# Altium footprint library DXPpcb.PCBLIB: 575 footprints (part 21 of 36)
Each footprint in its own frame and in the unit in brackets; x right, y up, seen from the top. Pads: shape width x height; smd on the part's side, far side on the other; paste and mask are expansions set on the pad; w line width, h text height; cw(c..) or ccw(c..) is an arc to the next point about the centre after c.
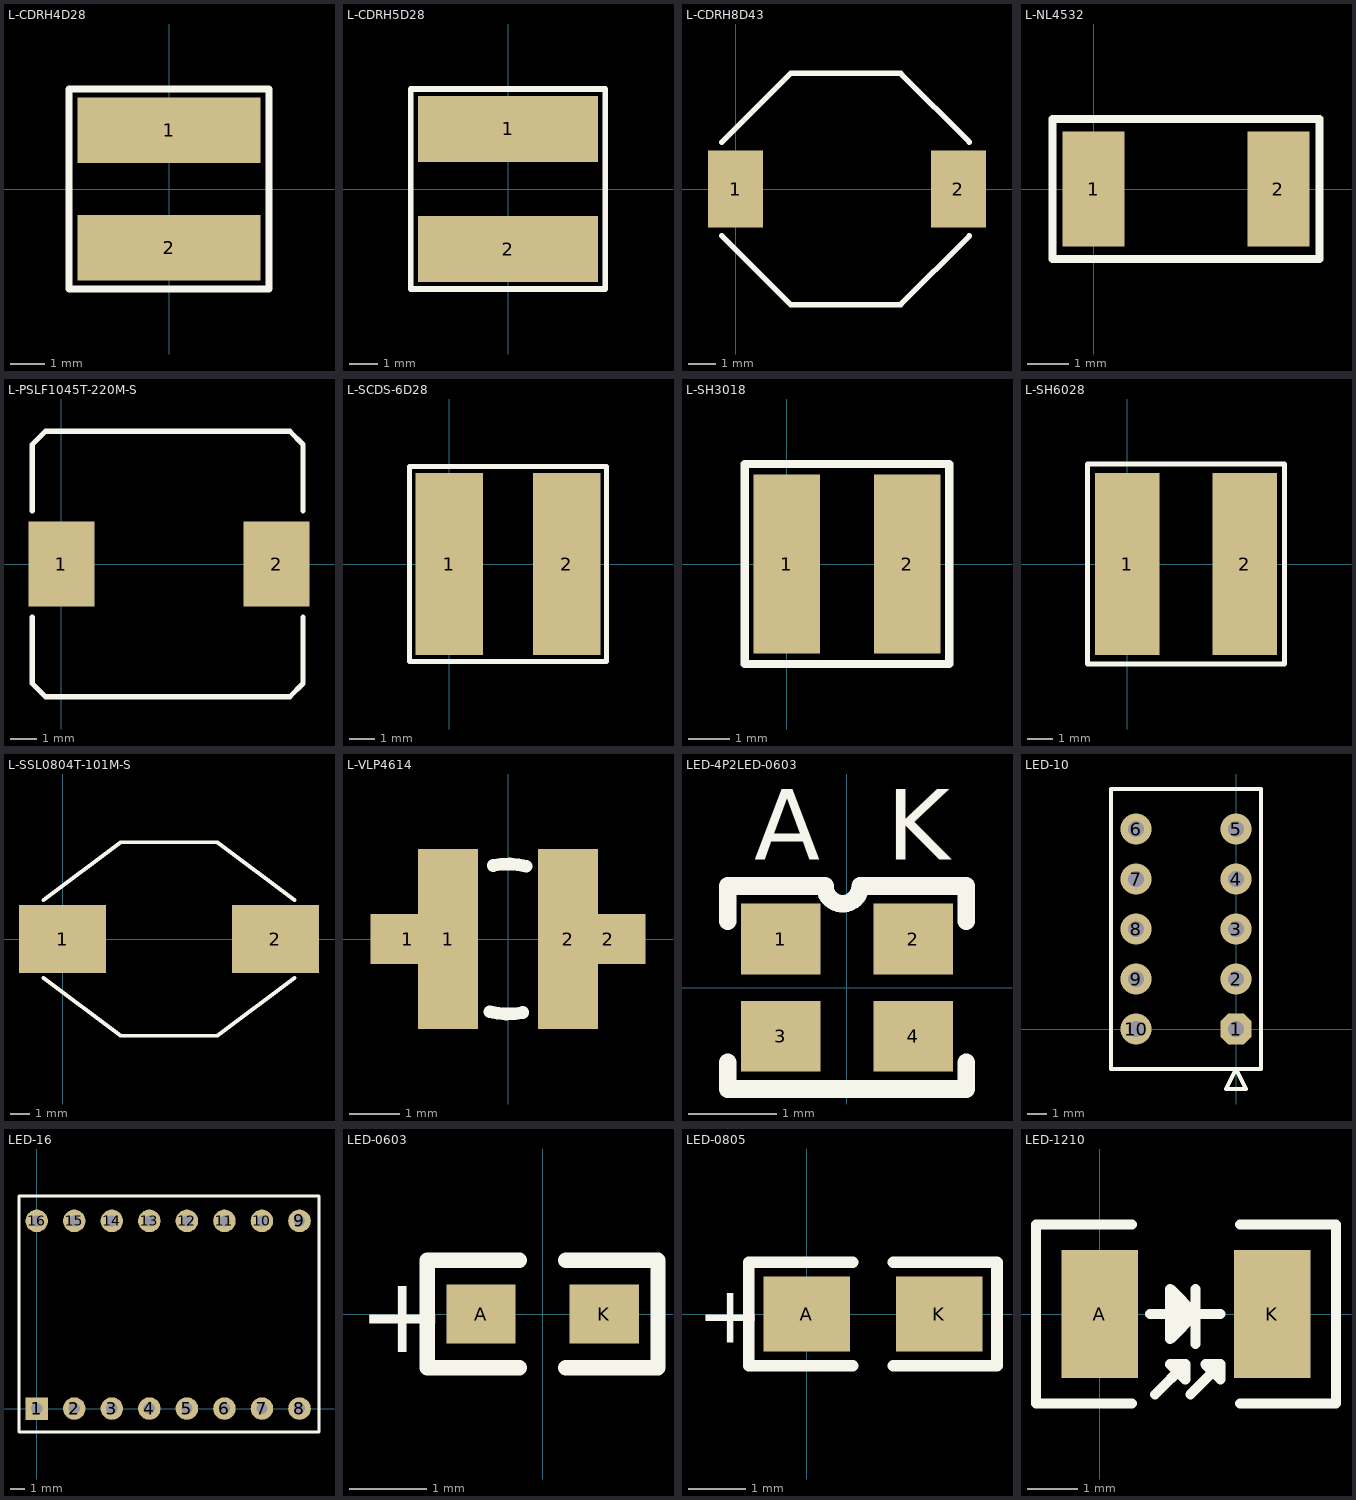
[diagram p20: the footprints below, top view; thin cyan lines are the x and y axes]

## L-CDRH4D28 [mm]
pads (2):
  rect 5.3x1.9 smd: 1(0,1.7) 2(0,-1.7)
TopOverlay:
  lines w0.2: -2.9,-2.9 2.9,-2.9 2.9,2.9 -2.9,2.9 -2.9,-2.9

## L-CDRH5D28 [mm]
pads (2):
  rect 6.3x2.3 smd: 1(0,2.1) 2(0,-2.1)
TopOverlay:
  lines w0.2: -3.4,-3.5 3.4,-3.5 3.4,3.5 -3.4,3.5 -3.4,-3.5

## L-CDRH8D43 [mm]
pads (2):
  rect 2x2.8 smd: 1(0,0) 2(8.1,0)
TopOverlay:
  lines w0.2: -0.5,-1.7 2,-4.2 6,-4.2 8.5,-1.7 ; -0.5,1.7 2,4.2 6,4.2 8.5,1.7

## L-NL4532 [mm]
pads (2):
  rect 1.5x2.8 smd: 1(0,0) 2(4.5,0)
TopOverlay:
  lines w0.2: -1,-1.7 5.5,-1.7 5.5,1.7 -1,1.7 -1,-1.7

## L-PSLF1045T-220M-S [mm]
pads (2):
  rect 2.5x3.2 smd: 1(0,0) 2(8.1,0)
TopOverlay:
  lines w0.2: -1.1,-2 -1.1,-4.5 -0.6,-5 8.6,-5 9.1,-4.5 9.1,-2 ; -1.1,2 -1.1,4.5 -0.6,5 8.6,5 9.1,4.5 9.1,2

## L-SCDS-6D28 [mm]
pads (2):
  rect 2.7x7.3 smd: 1(0,0) 2(4.7,0)
TopOverlay:
  lines w0.2: -1.6,-3.9 6.3,-3.9 6.3,3.9 -1.6,3.9 -1.6,-3.9

## L-SH3018 [mm]
pads (2):
  rect 1.6x4.3 smd: 1(0,0) 2(2.9,0)
TopOverlay:
  lines w0.2: -1,-2.4 -1,2.4 3.9,2.4 3.9,-2.4 -1,-2.4

## L-SH6028 [mm]
pads (2):
  rect 2.6x7.3 smd: 1(0,0) 2(4.7,0)
TopOverlay:
  lines w0.2: -1.6,-4 -1.6,4 6.3,4 6.3,-4 -1.6,-4

## L-SSL0804T-101M-S [mm]
pads (2):
  rect 4.5x3.5 smd: 1(0,0) 2(11,0)
TopOverlay:
  lines w0.2: -1,-2 3,-5 8,-5 12,-2 ; -1,2 3,5 8,5 12,2

## L-VLP4614 [mm]
pads (4):
  rect 1.5x1 smd: 1(-2,0) 2(2,0)
  rect 1.2x3.6 smd: 1(-1.2,0) 2(1.2,0)
TopOverlay:
  lines w0.254: -0.364,-1.455 ccw(c0,0) 0.294,-1.471 ; -0.294,1.471 cw(c0,0) 0.364,1.455

## LED-4P2LED-0603 [mm]
pads (4):
  rect 0.9x0.8 smd: 1(-0.75,0.55) 2(0.75,0.55) 3(-0.75,-0.55) 4(0.75,-0.55)
TopOverlay:
  lines w0.2: -1.35,-0.85 -1.35,-1.15 1.35,-1.15 1.35,-0.85 ; -1.35,0.75 -1.35,1.15 -0.25,1.15 ccw(c-0.05,1.15) 0.15,1.15 1.35,1.15 1.35,0.75
  text "A" at -1.05,1.45 h0.8
  text "K" at 0.45,1.45 h0.8

## LED-10 [mm]
pads (10):
  oct 1.6x1.6 hole 0.8: 1(0,0)
  round 1.6 hole 0.8: 2(0,2.54) 3(0,5.08) 4(0,7.62) 5(0,10.16) 6(-5.08,10.16) 7(-5.08,7.62) 8(-5.08,5.08) 9(-5.08,2.54) 10(-5.08,0)
TopOverlay:
  lines w0.2: -6.35,-2.032 1.27,-2.032 1.27,12.192 -6.35,12.192 -6.35,-2.032 ; -0.508,-3.048 0,-2.032 0.508,-3.048 -0.508,-3.048

## LED-16 [mil]
pads (16):
  rect 60x60 hole 30: 1(0,0)
  round 60 hole 30: 2(100,0) 3(200,0) 4(300,0) 5(400,0) 6(500,0) 7(600,0) 8(700,0) 9(700,500) 10(600,500) 11(500,500) 12(400,500) 13(300,500) 14(200,500) 15(100,500) 16(0,500)
TopOverlay:
  lines w7.87: -47.24,-62.99 -47.24,566.93 751.97,566.93 751.97,-62.99 -47.24,-62.99

## LED-0603 [mm]
pads (2):
  rect 0.9x0.762 smd: A(-0.8,0) K(0.8,0)
TopOverlay:
  lines w0.2: -0.3,-0.7 -1.5,-0.7 -1.5,0.7 -0.3,0.7 ; 0.3,-0.7 1.5,-0.7 1.5,0.7 0.3,0.7
  text "+" at -2.4,-0.5 h1

## LED-0805 [mm]
pads (2):
  rect 1.5x1.3 smd: A(0,0) K(2.3,0)
TopOverlay:
  lines w0.2: 0.8,-0.9 -1,-0.9 -1,0.9 0.8,0.9 ; 1.5,-0.9 3.3,-0.9 3.3,0.9 1.5,0.9
  text "+" at -1.9,-0.5 h1

## LED-1210 [mil]
pads (2):
  rect 60x100 smd: A(0,0) K(135,0)
TopOverlay:
  lines w7.87: 25,-70 -50,-70 -50,70 25,70 ; 39.37,0 55.12,0 ; 43.31,-62.99 66.93,-39.37 ; 60.73,-12.67 60.73,14.07 ; 67.27,-6.13 67.27,7.54 ; 70.87,-62.99 94.49,-39.37 ; 74.8,-23.62 74.8,19.68 ; 94.49,0 74.8,0 ; 110,-70 185,-70 185,70 110,70 ; 66.93,-39.37 66.93,-51.18 55.12,-39.37 66.93,-39.37 ; 74.8,0 55.12,19.68 55.12,-19.68 74.8,0 ; 94.49,-39.37 94.49,-51.18 82.68,-39.37 94.49,-39.37